# Altium footprint library PowerPcbLib.PcbLib: 18 footprints (part 2 of 2)
Each footprint in its own frame and in the unit in brackets; x right, y up, seen from the top. Pads: shape width x height; smd on the part's side, far side on the other; paste and mask are expansions set on the pad; w line width, h text height; cw(c..) or ccw(c..) is an arc to the next point about the centre after c.
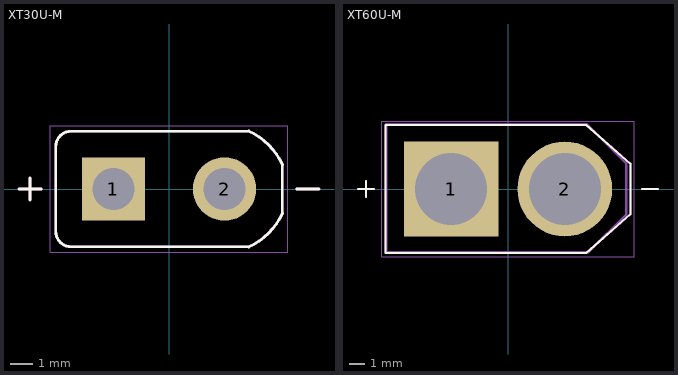
[diagram p1: the footprints below, top view; thin cyan lines are the x and y axes]

## XT30U-M [mm]
height 10.7
pads (2):
  rect 2.85x2.85 hole 1.9 mask+0.102: 1(-2.5,0)
  round 2.85 hole 1.9 mask+0.102: 2(2.5,0)
Top Overlay:
  lines w0.127: -6.75,0 -5.75,0 ; -6.25,-0.5 -6.25,0.5 ; 3.586,-2.606 ccw(c2.366,0.134) 5.106,-1.086 ; 3.586,2.606 cw(c2.366,-0.134) 5.106,1.086 ; 3.6,-2.6 -4.4,-2.6 cw(c-4.4,-1.9) -5.1,-1.9 -5.1,1.9 cw(c-4.4,1.9) -4.4,2.6 3.6,2.6 ; 5.1,-1.1 5.1,1.1 ; 5.75,0 6.75,0
Top Component Outline:
  lines w0.127: -6.75,0 -5.75,0 ; -6.25,-0.5 -6.25,0.5 ; 3.586,-2.606 ccw(c2.366,0.134) 5.106,-1.086 ; 3.586,2.606 cw(c2.366,-0.134) 5.106,1.086 ; 3.6,-2.6 -4.4,-2.6 cw(c-4.4,-1.9) -5.1,-1.9 -5.1,1.9 cw(c-4.4,1.9) -4.4,2.6 3.6,2.6 ; 5.1,-1.1 5.1,1.1 ; 5.75,0 6.75,0
Mechanical 15:
  lines w0.05: -5.35,-2.85 5.35,-2.85 5.35,2.85 -5.35,2.85 -5.35,-2.85
3D body "step_temp.STEP": height 10.7, standoff -2, extent -5.1,-2.6 5.1,2.6

## XT60U-M [mm]
height 16
pads (2):
  rect 6x6 / inner round 6 / far side rect 6x6 hole 4.55: 1(-3.6,0)
  round 6 hole 4.55: 2(3.6,0)
Top Overlay:
  lines w0.127: -9.5,0 -8.5,0 ; -9,-0.5 -9,0.5 ; 8.5,0 9.5,0 ; -7.75,-4.05 -7.75,4.05 4.95,4.05 7.75,1.6 7.75,-1.6 4.95,-4.05 -7.75,-4.05
Top Assembly:
  lines w0.15: -7.7,-4 -7.7,4.1 5,4.1 7.5,1.6 7.5,-1.6 5.1,-4 -7.7,-4
  text ".Designator" at -3.6,-0.514 h1.52
Top Component Outline:
  lines w0.127: -9.5,0 -8.5,0 ; -9,-0.5 -9,0.5 ; 8.5,0 9.5,0 ; -7.75,-4.05 -7.75,4.05 4.95,4.05 7.75,1.6 7.75,-1.6 4.95,-4.05 -7.75,-4.05
Mechanical 15:
  lines w0.05: -8,-4.3 8,-4.3 8,4.3 -8,4.3 -8,-4.3
3D body "step_temp.STEP": height 16, standoff -4.5, extent -7.75,-4.05 7.75,4.05